# EAGLE library part ADXL337 (library wedfestdress)
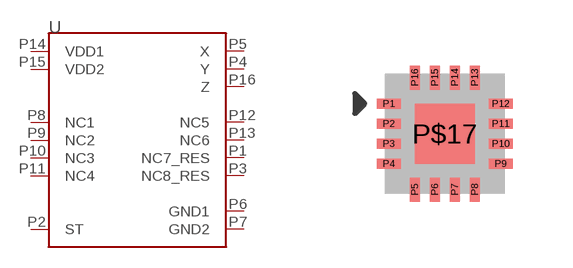
[diagram p4: symbol with the pads of ADXL337; footprint ADXL337]

Designator prefix U

## ADXL337 (COST_X1: 4.58; COST_X100: 3.3677; COST_X500: 2.86682; DESCRIPTION: Accelerometer, 3G, 550 Hz / 1.6 kHz; DISPLAY: 3G, 550 Hz/1.6 kHz; DISTRIBUTOR: Digikey; DIST_PART_NO: ADXL337BCPZ-RL7CT-ND; MFG: Analog Devices; MFG_PART_NO: ADXL337BCPZ-RL7; PACKAGE: SMT)  [ADXL337]
P1  NC7_RES
P2  ST
P3  NC8_RES
P4  Y
P5  X
P6  GND1
P7  GND2
P8  NC1
P9  NC2
P10  NC3
P11  NC4
P12  NC5
P13  NC6
P14  VDD1
P15  VDD2
P16  Z

## Footprint ADXL337 (pad centres in mm)
smd 0.6 x 0.25: P1 -1.4,0.75; P2 -1.4,0.25; P3 -1.4,-0.25; P4 -1.4,-0.75; P9 1.4,-0.75; P10 1.4,-0.25; P11 1.4,0.25; P12 1.4,0.75
smd 0.25 x 0.6: P5 -0.75,-1.4; P6 -0.25,-1.4; P7 0.25,-1.4; P8 0.75,-1.4; P13 0.75,1.4; P14 0.25,1.4; P15 -0.25,1.4; P16 -0.75,1.4
smd 1.5 x 1.5: P$17 0,0